# Altium schematic symbol library Power_Management.SchLib: 218 symbols (part 1 of 3)
Pins are listed as number, name and electrical type; pins without a type are passive.

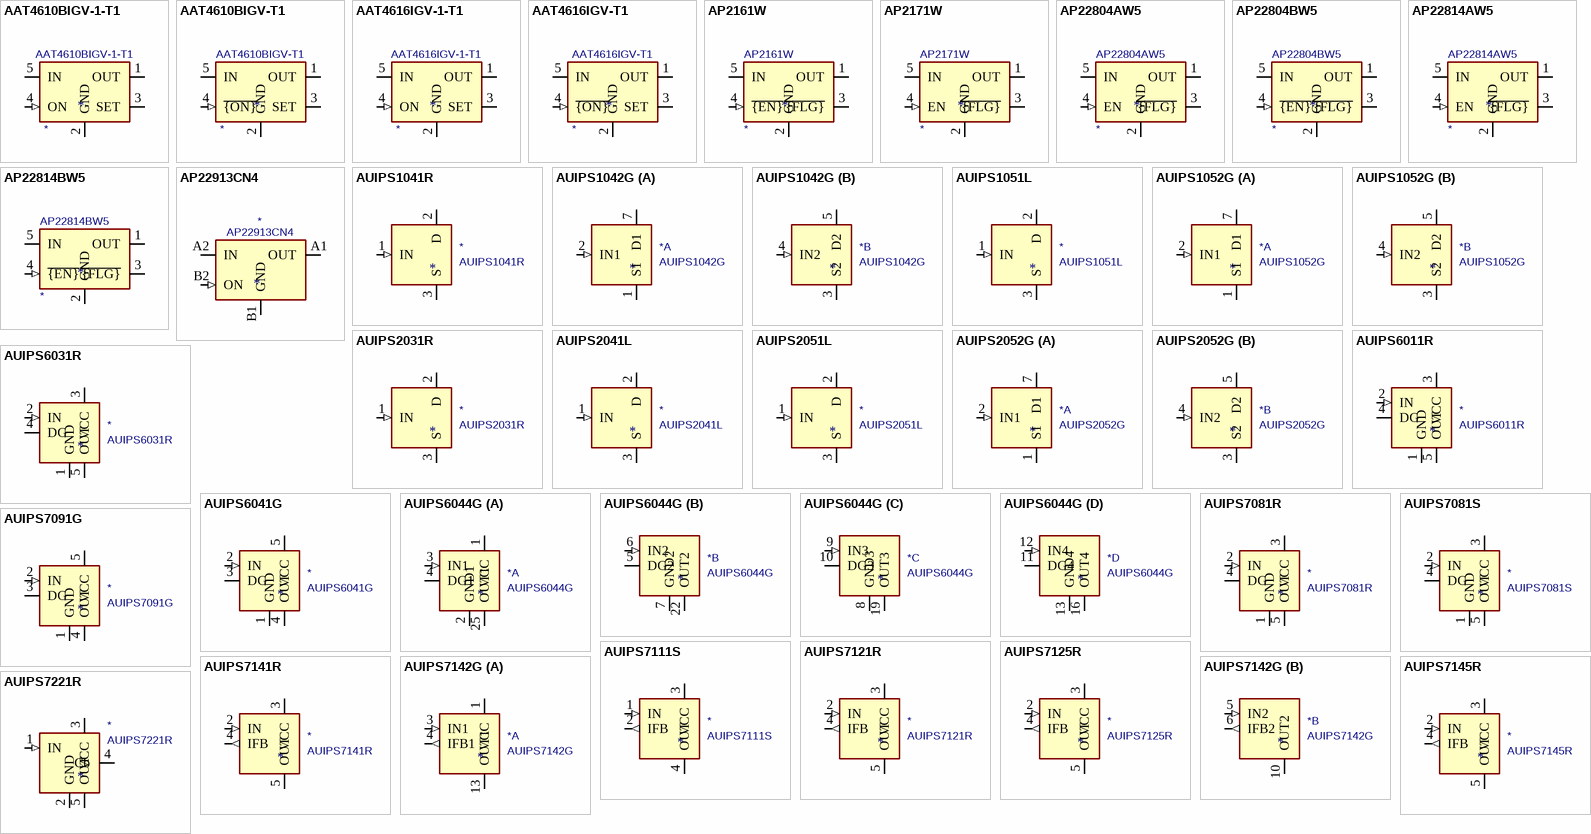
[diagram p0: symbols AAT4610BIGV-1-T1 to AUIPS7221R]

## AAT4610BIGV-1-T1
designator *  value AAT4610BIGV-1-T1
ki_keywords: Limit USB Active High; ki_description: Current Limited Load Switch, SOT-23-5; ki_fp_filters: SOT?23*; Footprint: Package_TO_SOT_SMD:SOT-23-5; Supplier: http://www.skyworksinc.com/uploads/documents/201937A.pdf
footprint SOT-23-5
pins: 1 OUT (power), 2 GND (power), 3 SET, 4 ON (in), 5 IN (power)

## AAT4610BIGV-T1
designator *  value AAT4610BIGV-T1
ki_keywords: Limit USB Active Low; ki_description: Current Limited Load Switch, SOT-23-5; ki_fp_filters: SOT?23*; Footprint: Package_TO_SOT_SMD:SOT-23-5; Supplier: http://www.skyworksinc.com/uploads/documents/201937A.pdf
footprint SOT-23-5
pins: 1 OUT (power), 2 GND (power), 3 SET, 4 ~{{ON}} (in), 5 IN (power)

## AAT4616IGV-1-T1
designator *  value AAT4616IGV-1-T1
ki_keywords: Limit USB Active High; ki_description: Adjustable Current Limited Load Switch, SOT-23-5; ki_fp_filters: SOT?23*; Footprint: Package_TO_SOT_SMD:SOT-23-5; Supplier: http://www.skyworksinc.com/uploads/documents/AAT4616_201940E.pdf
footprint SOT-23-5
pins: 1 OUT (power), 2 GND (power), 3 SET, 4 ON (in), 5 IN (power)

## AAT4616IGV-T1
designator *  value AAT4616IGV-T1
ki_keywords: Limit USB Active Low; ki_description: Adjustable Current Limited Load Switch, SOT-23-5; ki_fp_filters: SOT?23*; Footprint: Package_TO_SOT_SMD:SOT-23-5; Supplier: http://www.skyworksinc.com/uploads/documents/AAT4616_201940E.pdf
footprint SOT-23-5
pins: 1 OUT (power), 2 GND (power), 3 SET, 4 ~{{ON}} (in), 5 IN (power)

## AP2161W
designator *  value AP2161W
ki_keywords: Limit USB Active Low; ki_description: Current limited power switch, single channel, SOT-23-5; ki_fp_filters: SOT?23*; Footprint: Package_TO_SOT_SMD:SOT-23-5; Supplier: https://www.diodes.com/assets/Datasheets/AP2161.pdf
footprint SOT-23-5
pins: 1 OUT (power), 2 GND (power), 3 ~{{FLG}} (oc), 4 ~{{EN}} (in), 5 IN (power)

## AP2171W
designator *  value AP2171W
ki_keywords: Limit USB Active High; ki_description: Current limited power switch, single channel, SOT-23-5; ki_fp_filters: SOT?23*; Footprint: Package_TO_SOT_SMD:SOT-23-5; Supplier: https://www.diodes.com/assets/Datasheets/AP2161.pdf
footprint SOT-23-5
pins: 1 OUT (power), 2 GND (power), 3 ~{{FLG}} (oc), 4 EN (in), 5 IN (power)

## AP22804AW5
designator *  value AP22804AW5
ki_keywords: Limit USB Active High; ki_description: Current limited 2.5A power switch, single channel, SOT-23-5; ki_fp_filters: SOT?23*; Footprint: Package_TO_SOT_SMD:SOT-23-5; Supplier: https://www.diodes.com/assets/Datasheets/AP22804_14.pdf
footprint SOT-23-5
pins: 1 OUT (power), 2 GND (power), 3 ~{{FLG}} (oc), 4 EN (in), 5 IN (power)

## AP22804BW5
designator *  value AP22804BW5
ki_keywords: Limit USB Active Low; ki_description: Current limited 2.5A power switch, single channel, SOT-23-5; ki_fp_filters: SOT?23*; Footprint: Package_TO_SOT_SMD:SOT-23-5; Supplier: https://www.diodes.com/assets/Datasheets/AP22804_14.pdf
footprint SOT-23-5
pins: 1 OUT (power), 2 GND (power), 3 ~{{FLG}} (oc), 4 ~{{EN}} (in), 5 IN (power)

## AP22814AW5
designator *  value AP22814AW5
ki_keywords: Limit USB Active High; ki_description: Current limited 3A power switch, single channel, SOT-23-5; ki_fp_filters: SOT?23*; Footprint: Package_TO_SOT_SMD:SOT-23-5; Supplier: https://www.diodes.com/assets/Datasheets/AP22804_14.pdf
footprint SOT-23-5
pins: 1 OUT (power), 2 GND (power), 3 ~{{FLG}} (oc), 4 EN (in), 5 IN (power)

## AP22814BW5
designator *  value AP22814BW5
ki_keywords: Limit USB Active Low; ki_description: Current limited 3A power switch, single channel, SOT-23-5; ki_fp_filters: SOT?23*; Footprint: Package_TO_SOT_SMD:SOT-23-5; Supplier: https://www.diodes.com/assets/Datasheets/AP22804_14.pdf
footprint SOT-23-5
pins: 1 OUT (power), 2 GND (power), 3 ~{{FLG}} (oc), 4 ~{{EN}} (in), 5 IN (power)

## AP22913CN4
designator *  value AP22913CN4
ki_keywords: Lead control switch slew rate; ki_description: Slew rate controlled load switch, WLCSP-4; ki_fp_filters: WLCSP*X1*WLB0909*0.89x0.89*P0.5mm*; Footprint: Package_CSP:WLCSP-4-X1-WLB0909-4_0.89x0.89mm_P0.5mm; Supplier: https://www.diodes.com/assets/Datasheets/AP22913.pdf
footprint WLCSP-4-X1-WLB0909-4_0.89x0.89mm_P0.5mm
pins: A1 OUT (power), A2 IN (power), B1 GND (power), B2 ON (in)

## AUIPS1041R
designator *  value AUIPS1041R
ki_keywords: low side switch; ki_description: Intelligent Power Low Side Switch, 39V, 4.5A, DPAK-5L; ki_fp_filters: TO?252*; Footprint: Package_TO_SOT_SMD:TO-252-3_TabPin2; Supplier: https://www.infineon.com/dgdl/Infineon-AUIPS1041-DS-v01_00-EN.pdf?fileId=5546d4625a888733015aae14a0524c63
footprint TO-252-3_TabPin2
pins: 1 IN (in), 2 D, 3 S (power)

## AUIPS1042G
designator *  value AUIPS1042G
ki_keywords: dual low side switch; ki_description: Dual Channel Intelligent Power Low Side Switch, 39V, 4.5A, SOIC-8; ki_fp_filters: SOIC*3.9x4.9mm*P1.27mm*; Footprint: Package_SO:SOIC-8_3.9x4.9mm_P1.27mm; Supplier: https://www.infineon.com/dgdl/Infineon-AUIPS1041-DS-v01_00-EN.pdf?fileId=5546d4625a888733015aae14a0524c63
footprint SOIC-8_3.9x4.9mm_P1.27mm
part A pins: 1 S1 (power), 2 IN1 (in), 7 D1, 8 D1 hidden
part B pins: 3 S2 (power), 4 IN2 (in), 5 D2, 6 D2 hidden

## AUIPS1051L
designator *  value AUIPS1051L
ki_keywords: low side switch; ki_description: Intelligent Power Low Side Switch, 39V, 2.8A, SOT-223; ki_fp_filters: SOT?223*; Footprint: Package_TO_SOT_SMD:SOT-223-3_TabPin2; Supplier: https://www.infineon.com/dgdl/auips1051.pdf?fileId=5546d462533600a4015355a4710712fc
footprint SOT-223-3_TabPin2
pins: 1 IN (in), 2 D, 3 S (power)

## AUIPS1052G
designator *  value AUIPS1052G
ki_keywords: dual low side switch; ki_description: Dual Channel Intelligent Power Low Side Switch, 39V, 2.8A, SOIC-8; ki_fp_filters: SOIC*3.9x4.9mm*P1.27mm*; Footprint: Package_SO:SOIC-8_3.9x4.9mm_P1.27mm; Supplier: https://www.infineon.com/dgdl/auips1051.pdf?fileId=5546d462533600a4015355a4710712fc
footprint SOIC-8_3.9x4.9mm_P1.27mm
part A pins: 1 S1 (power), 2 IN1 (in), 7 D1, 8 D1 hidden
part B pins: 3 S2 (power), 4 IN2 (in), 5 D2, 6 D2 hidden

## AUIPS2031R
designator *  value AUIPS2031R
ki_keywords: low side switch; ki_description: Intelligent Power Low Side Switch, 68V, 10A, DPAK-5L; ki_fp_filters: TO?252*; Footprint: Package_TO_SOT_SMD:TO-252-3_TabPin2; Supplier: https://www.infineon.com/dgdl/Infineon-AUIPS2031R-DS-v01_00-EN.pdf?fileId=5546d4625a888733015aae1488334c5c
footprint TO-252-3_TabPin2
pins: 1 IN (in), 2 D, 3 S (power)

## AUIPS2041L
designator *  value AUIPS2041L
ki_keywords: low side switch; ki_description: Intelligent Power Low Side Switch, 68V, 5A, SOT-223; ki_fp_filters: SOT?223*; Footprint: Package_TO_SOT_SMD:SOT-223-3_TabPin2; Supplier: https://www.infineon.com/dgdl/Infineon-AUIPS2041-DS-v01_00-EN.pdf?fileId=5546d4625a888733015aae147a9d4c57
footprint SOT-223-3_TabPin2
pins: 1 IN (in), 2 D, 3 S (power)

## AUIPS2051L
designator *  value AUIPS2051L
ki_keywords: low side switch; ki_description: Intelligent Power Low Side Switch, 70V, 1.8A, SOT-223; ki_fp_filters: SOT?223*; Footprint: Package_TO_SOT_SMD:SOT-223-3_TabPin2; Supplier: https://www.infineon.com/dgdl/Infineon-AUIPS2052G-DS-v01_00-EN.pdf?fileId=5546d4625a888733015aae0b6fb04c51
footprint SOT-223-3_TabPin2
pins: 1 IN (in), 2 D, 3 S (power)

## AUIPS2052G
designator *  value AUIPS2052G
ki_keywords: dual low side switch; ki_description: Dual Channel Intelligent Power Low Side Switch, 70V, 1.8A, SOIC-8; ki_fp_filters: SOIC*3.9x4.9mm*P1.27mm*; Footprint: Package_SO:SOIC-8_3.9x4.9mm_P1.27mm; Supplier: https://www.infineon.com/dgdl/Infineon-AUIPS2052G-DS-v01_00-EN.pdf?fileId=5546d4625a888733015aae0b6fb04c51
footprint SOIC-8_3.9x4.9mm_P1.27mm
part A pins: 1 S1 (power), 2 IN1 (in), 7 D1, 8 D1 hidden
part B pins: 3 S2 (power), 4 IN2 (in), 5 D2, 6 D2 hidden

## AUIPS6011R
designator *  value AUIPS6011R
ki_keywords: high side switch; ki_description: Intelligent Power High Side Switch, 39V, 60A, DPAK-5L; ki_fp_filters: TO?252*; Footprint: Package_TO_SOT_SMD:TO-252-4; Supplier: https://www.infineon.com/dgdl/auips6011.pdf?fileId=5546d462533600a4015355a787bf1309
footprint TO-252-4
pins: 1 GND (power), 2 IN (in), 3 VCC (power), 4 DG (oc), 5 OUT (power)

## AUIPS6031R
designator *  value AUIPS6031R
ki_keywords: high side switch; ki_description: Intelligent Power High Side Switch, 39V, 16A, DPAK-5L; ki_fp_filters: TO?252*; Footprint: Package_TO_SOT_SMD:TO-252-4; Supplier: https://www.infineon.com/dgdl/auips6031.pdf?fileId=5546d462533600a4015355a797f51311
footprint TO-252-4
pins: 1 GND (power), 2 IN (in), 3 VCC (power), 4 DG (oc), 5 OUT (power)

## AUIPS6041G
designator *  value AUIPS6041G
ki_keywords: high side switch; ki_description: Intelligent Power High Side Switch, 39V, 7A, SOIC-8; ki_fp_filters: SOIC*3.9x4.9mm*P1.27mm*; Footprint: Package_SO:SOIC-8_3.9x4.9mm_P1.27mm; Supplier: https://www.infineon.com/dgdl/auips6041.pdf?fileId=5546d462533600a4015355a7a0251315
footprint SOIC-8_3.9x4.9mm_P1.27mm
pins: 1 GND (power), 2 IN (in), 3 DG (oc), 4 OUT (power), 5 VCC (power), 6 VCC hidden, 7 VCC hidden, 8 VCC hidden

## AUIPS6044G
designator *  value AUIPS6044G
ki_keywords: high side switch; ki_description: Intelligent Power High Side Switch, 39V, 7A, SOIC-28W; ki_fp_filters: SOIC*3.9x4.9mm*P1.27mm*; Footprint: Package_SO:SOIC-8_3.9x4.9mm_P1.27mm; Supplier: https://www.infineon.com/dgdl/auips6044g.pdf?fileId=5546d462533600a4015355a7a8e4131a
footprint SOIC-8_3.9x4.9mm_P1.27mm
part A pins: 1 VCC (power), 2 GND1 (power), 3 IN1 (in), 4 DG1 (oc), 14 VCC hidden, 15 VCC hidden, 25 OUT1 (power), 26 OUT1 hidden, 27 OUT1 hidden, 28 VCC hidden
part B pins: 5 DG2 (oc), 6 IN2 (in), 7 GND2 (power), 22 OUT2 (power), 23 OUT2 hidden, 24 OUT2 hidden
part C pins: 8 GND3 (power), 9 IN3 (in), 10 DG3 (oc), 19 OUT3 (power), 20 OUT3 hidden, 21 OUT3 hidden
part D pins: 11 DG4 (oc), 12 IN4 (in), 13 GND4 (power), 16 OUT4 (power), 17 OUT4 hidden, 18 OUT4 hidden

## AUIPS7081R
designator *  value AUIPS7081R
ki_keywords: high side switch; ki_description: Intelligent Power High Side Switch, 70V, 5A, DPAK-5L; ki_fp_filters: TO?252*; Footprint: Package_TO_SOT_SMD:TO-252-4; Supplier: https://www.infineon.com/dgdl/auips7081.pdf?fileId=5546d462533600a4015355a7b8d5131e
footprint TO-252-4
pins: 1 GND (power), 2 IN (in), 3 VCC (power), 4 DG (oc), 5 OUT (power)

## AUIPS7081S
designator *  value AUIPS7081S
ki_keywords: high side switch; ki_description: Intelligent Power High Side Switch, 70V, 5A, D2PAK-5L; ki_fp_filters: TO?263*; Footprint: Package_TO_SOT_SMD:TO-263-4; Supplier: https://www.infineon.com/dgdl/auips7081.pdf?fileId=5546d462533600a4015355a7b8d5131e
footprint TO-263-4
pins: 1 GND (power), 2 IN (in), 3 VCC (power), 4 DG (oc), 5 OUT (power)

## AUIPS7091G
designator *  value AUIPS7091G
ki_keywords: high side switch; ki_description: Intelligent Power High Side Switch, 70V, 5A, SOIC-8; ki_fp_filters: SOIC*3.9x4.9mm*P1.27mm*; Footprint: Package_SO:SOIC-8_3.9x4.9mm_P1.27mm; Supplier: https://www.infineon.com/dgdl/auips7091.pdf?fileId=5546d462533600a4015355a7c0d21322
footprint SOIC-8_3.9x4.9mm_P1.27mm
pins: 1 GND (power), 2 IN (in), 3 DG (oc), 4 OUT (power), 5 VCC (power), 6 VCC hidden, 7 VCC hidden, 8 VCC hidden

## AUIPS7111S
designator *  value AUIPS7111S
ki_keywords: high side switch; ki_description: Current Sense High Side Switch, 65V, 30A, D2PAK-5L; ki_fp_filters: TO?263*; Footprint: Package_TO_SOT_SMD:TO-263-4; Supplier: https://www.infineon.com/dgdl/auips7111s.pdf?fileId=5546d462533600a4015355a7c94e1326
footprint TO-263-4
pins: 1 IN (in), 2 IFB (out), 3 VCC (power), 4 OUT (power), 5 OUT hidden

## AUIPS7121R
designator *  value AUIPS7121R
ki_keywords: high side switch; ki_description: Current Sense High Side Switch, 65V, 50A, DPAK-5L; ki_fp_filters: TO?252*; Footprint: Package_TO_SOT_SMD:TO-252-4; Supplier: http://www.infineon.com/dgdl/auips7121.pdf?fileId=5546d462533600a4015355a7d1721328
footprint TO-252-4
pins: 1 NC (in) hidden, 2 IN (in), 3 VCC (power), 4 IFB (out), 5 OUT (power)

## AUIPS7125R
designator *  value AUIPS7125R
ki_keywords: high side switch; ki_description: Current Sense High Side Switch, 65V, 50A, DPAK-5L; ki_fp_filters: TO?252*; Footprint: Package_TO_SOT_SMD:TO-252-4; Supplier: https://www.infineon.com/dgdl/auips7125.pdf?fileId=5546d462533600a4015355a7d96a132a
footprint TO-252-4
pins: 1 NC (in) hidden, 2 IN (in), 3 VCC (power), 4 IFB (out), 5 OUT (power)

## AUIPS7141R
designator *  value AUIPS7141R
ki_keywords: high side switch; ki_description: Current Sense High Side Switch, 65V, 20A, DPAK-5L; ki_fp_filters: TO?252*; Footprint: Package_TO_SOT_SMD:TO-252-4; Supplier: https://www.infineon.com/dgdl/auips7141.pdf?fileId=5546d462533600a4015355a7e126132c
footprint TO-252-4
pins: 1 NC (in) hidden, 2 IN (in), 3 VCC (power), 4 IFB (out), 5 OUT (power)

## AUIPS7142G
designator *  value AUIPS7142G
ki_keywords: dual high side switch; ki_description: Dual Channels Current Sense High Side Switch, 65V, 20A, SOIC-16W; ki_fp_filters: SOIC*W*7.5x10.3mm*P1.27mm*; Footprint: Package_SO:SOIC-16W_7.5x10.3mm_P1.27mm; Supplier: https://www.infineon.com/dgdl/auips7142g.pdf?fileId=5546d462533600a4015355a7ef451330
footprint SOIC-16W_7.5x10.3mm_P1.27mm
part A pins: 1 VCC (power), 2 VCC hidden, 3 IN1 (in), 4 IFB1 (out), 7 VCC hidden, 8 VCC hidden, 9 VCC hidden, 13 OUT1 (power), 14 OUT1 hidden, 15 OUT1 hidden, 16 VCC hidden
part B pins: 5 IN2 (in), 6 IFB2 (out), 10 OUT2 (power), 11 OUT2 hidden, 12 OUT2 hidden

## AUIPS7145R
designator *  value AUIPS7145R
ki_keywords: high side switch; ki_description: Current Sense High Side Switch, 65V, 20A, DPAK-5L; ki_fp_filters: TO?252*; Footprint: Package_TO_SOT_SMD:TO-252-4; Supplier: https://www.infineon.com/dgdl/auips7145r.pdf?fileId=5546d462533600a4015355a7ff1a1334
footprint TO-252-4
pins: 1 NC (in) hidden, 2 IN (in), 3 VCC (power), 4 IFB (out), 5 OUT (power)

## AUIPS7221R
designator *  value AUIPS7221R
ki_keywords: high side switch; ki_description: PWM Intelligent Power High Side Switch, 75V, 25A, DPAK-5L; ki_fp_filters: TO?252*; Footprint: Package_TO_SOT_SMD:TO-252-4; Supplier: https://www.infineon.com/dgdl/auips7221r.pdf?fileId=5546d462533600a4015355a80e761338
footprint TO-252-4
pins: 1 IN (in), 2 GND (power), 3 VCC (power), 4 Cb, 5 OUT (power)

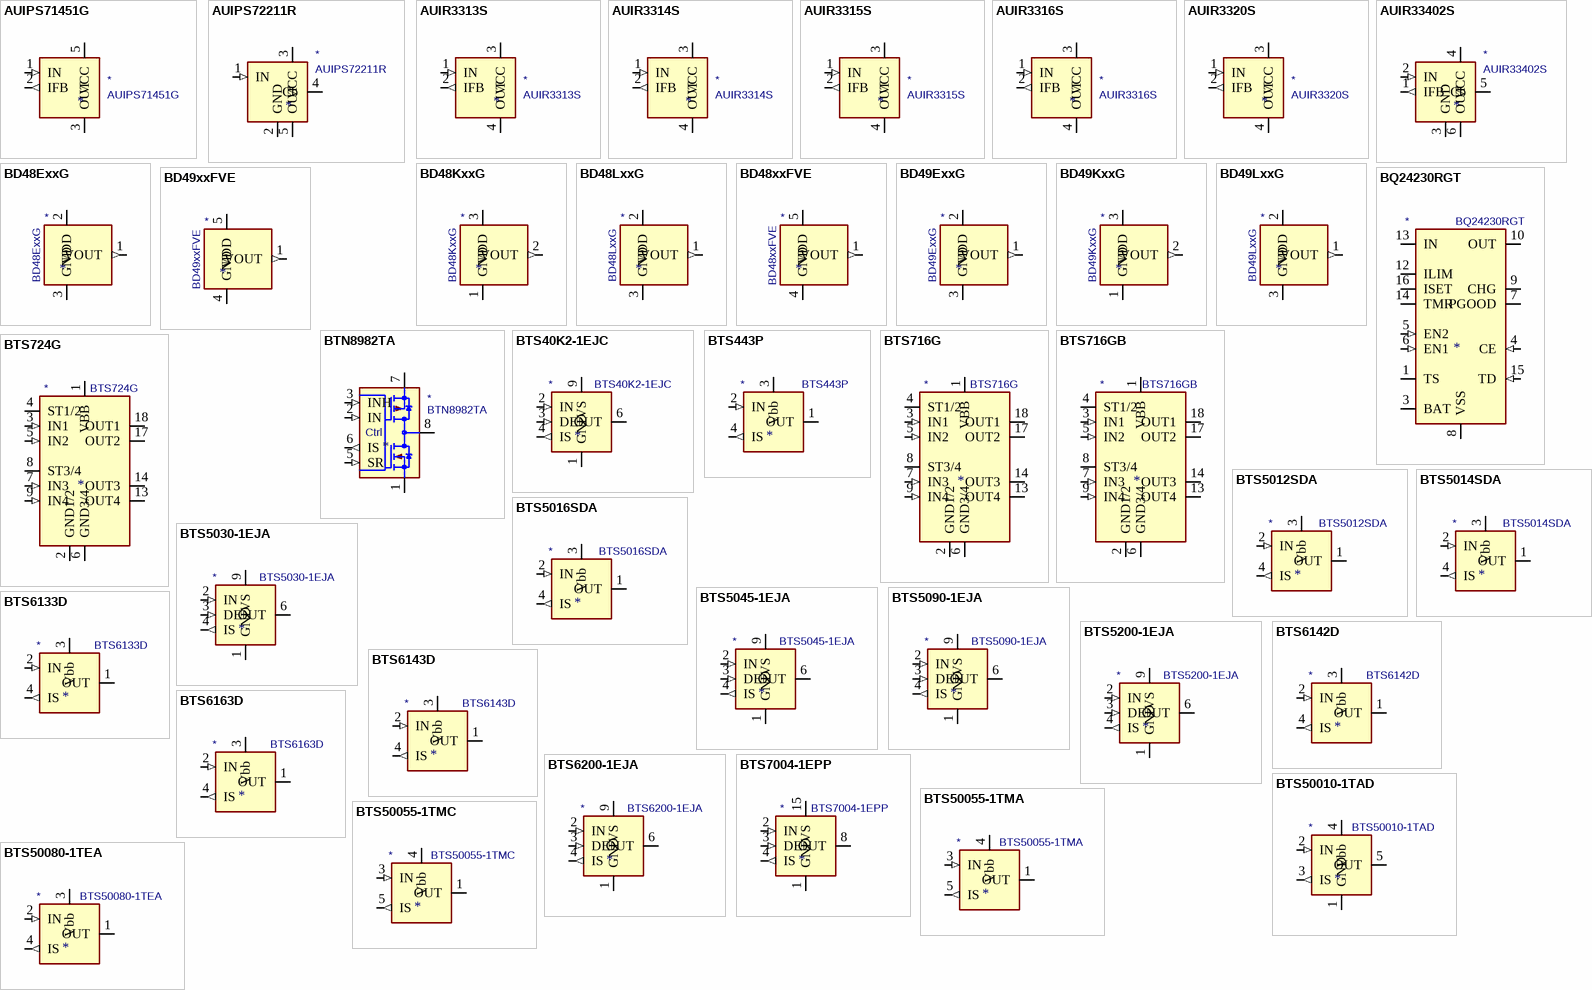
[diagram p1: symbols AUIPS71451G to BTS50080-1TEA]

## AUIPS71451G
designator *  value AUIPS71451G
ki_keywords: high side switch; ki_description: Current Sense High Side Switch, 65V, 4A, SOIC-8; ki_fp_filters: SOIC*3.9x4.9mm*P1.27mm*; Footprint: Package_SO:SOIC-8_3.9x4.9mm_P1.27mm; Supplier: https://www.infineon.com/dgdl/auips71451g.pdf?fileId=5546d462533600a4015355a7f7461332
footprint SOIC-8_3.9x4.9mm_P1.27mm
pins: 1 IN (in), 2 IFB (out), 3 OUT (power), 4 OUT hidden, 5 VCC (power), 6 VCC hidden, 7 VCC hidden, 8 VCC hidden

## AUIPS72211R
designator *  value AUIPS72211R
ki_keywords: high side switch; ki_description: Low EMI PWM Intelligent Power High Side Switch, 75V, 20A, DPAK-5L; ki_fp_filters: TO?252*; Footprint: Package_TO_SOT_SMD:TO-252-4; Supplier: https://www.infineon.com/dgdl/Infineon-AUIPS72211R-DS-v01_10-EN.pdf?fileId=5546d4625a888733015aad6673cb4beb
footprint TO-252-4
pins: 1 IN (in), 2 GND (power), 3 VCC (power), 4 Cb, 5 OUT (power)

## AUIR3313S
designator *  value AUIR3313S
ki_keywords: high side switch; ki_description: Programmable Current Sense High Side Switch, 32V, 90A, D2PAK-5L; ki_fp_filters: TO?263*; Footprint: Package_TO_SOT_SMD:TO-263-4; Supplier: https://www.infineon.com/dgdl/auir3313.pdf?fileId=5546d462533600a4015355a83e2d1347
footprint TO-263-4
pins: 1 IN (in), 2 IFB (out), 3 VCC (power), 4 OUT (power), 5 OUT hidden

## AUIR3314S
designator *  value AUIR3314S
ki_keywords: high side switch; ki_description: Programmable Current Sense High Side Switch, 32V, 58A, D2PAK-5L; ki_fp_filters: TO?263*; Footprint: Package_TO_SOT_SMD:TO-263-4; Supplier: https://www.infineon.com/dgdl/auir3314.pdf?fileId=5546d462533600a4015355a846b8134a
footprint TO-263-4
pins: 1 IN (in), 2 IFB (out), 3 VCC (power), 4 OUT (power), 5 OUT hidden

## AUIR3315S
designator *  value AUIR3315S
ki_keywords: high side switch; ki_description: Programmable Current Sense High Side Switch, 32V, 30A, D2PAK-5L; ki_fp_filters: TO?263*; Footprint: Package_TO_SOT_SMD:TO-263-4; Supplier: https://www.infineon.com/dgdl/auir3315.pdf?fileId=5546d462533600a4015355a84eda134d
footprint TO-263-4
pins: 1 IN (in), 2 IFB (out), 3 VCC (power), 4 OUT (power), 5 OUT hidden

## AUIR3316S
designator *  value AUIR3316S
ki_keywords: high side switch; ki_description: Low EMI Current Sense High Side Switch, 26V, 90A, D2PAK-5L; ki_fp_filters: TO?263*; Footprint: Package_TO_SOT_SMD:TO-263-4; Supplier: https://www.infineon.com/dgdl/auir3316.pdf?fileId=5546d462533600a4015355a856f41350
footprint TO-263-4
pins: 1 IN (in), 2 IFB (out), 3 VCC (power), 4 OUT (power), 5 OUT hidden

## AUIR3320S
designator *  value AUIR3320S
ki_keywords: high side switch; ki_description: Low EMI Current Sense High Side Switch, 26V, 55A, D2PAK-5L; ki_fp_filters: TO?263*; Footprint: Package_TO_SOT_SMD:TO-263-4; Supplier: https://www.infineon.com/dgdl/auir3320s.pdf?fileId=5546d462533600a4015355a867d01356
footprint TO-263-4
pins: 1 IN (in), 2 IFB (out), 3 VCC (power), 4 OUT (power), 5 OUT hidden

## AUIR33402S
designator *  value AUIR33402S
ki_keywords: high side switch; ki_description: Protected High Side Switch, 18V, 33A, D2PAK-7L; ki_fp_filters: TO?263*TabPin4*; Footprint: Package_TO_SOT_SMD:TO-263-7_TabPin4; Supplier: https://www.infineon.com/dgdl/auir33402s.pdf?fileId=5546d462533600a4015355a88074135c
footprint TO-263-7_TabPin4
pins: 1 IFB (out), 2 IN (in), 3 GND (power), 4 VCC (power), 5 Cb, 6 OUT (power), 7 OUT hidden

## BD48ExxG
designator *  value BD48ExxG
ki_keywords: voltage detector open drain SSOP5; ki_description: Standard CMOS Voltage Detector IC, Open Drain Output, SSOP5; ki_fp_filters: *SOT-23*5*; Footprint: Package_TO_SOT_SMD:SOT-23-5; Supplier: https://www.rohm.de/datasheet/BD4830FVE/bd48xxg-e
footprint SOT-23-5
pins: 1 VOUT (out), 2 VDD (power), 3 GND (power)

## BD48KxxG
designator *  value BD48KxxG
ki_keywords: voltage detector open drain SSOP3; ki_description: Standard CMOS Voltage Detector IC, Open Drain Output, SSOP3(1pin GND); ki_fp_filters: *SOT-23*; Footprint: Package_TO_SOT_SMD:SOT-23; Supplier: https://www.rohm.de/datasheet/BD4830FVE/bd48xxg-e
footprint SOT-23
pins: 1 GND (power), 2 VOUT (out), 3 VDD (power)

## BD48LxxG
designator *  value BD48LxxG
ki_keywords: voltage detector open drain SSOP3; ki_description: Standard CMOS Voltage Detector IC, Open Drain Output, SSOP3(3pin GND); ki_fp_filters: *SOT-23*; Footprint: Package_TO_SOT_SMD:SOT-23; Supplier: https://www.rohm.de/datasheet/BD4830FVE/bd48xxg-e
footprint SOT-23
pins: 1 VOUT (out), 2 VDD (power), 3 GND (power)

## BD48xxFVE
designator *  value BD48xxFVE
ki_keywords: voltage detector open drain VSOF5; ki_description: Standard CMOS Voltage Detector IC, Open Drain Output, VSOF5; ki_fp_filters: *VSOF*5*; Footprint: Package_TO_SOT_SMD:VSOF5; Supplier: https://www.rohm.de/datasheet/BD4830FVE/bd48xxg-e
footprint VSOF5
pins: 1 VOUT (out), 2 GND hidden, 4 GND (power), 5 VDD (power)

## BD49ExxG
designator *  value BD49ExxG
ki_keywords: voltage detector cmos SSOP5; ki_description: Standard CMOS Voltage Detector IC, CMOS Output, SSOP5; ki_fp_filters: *SOT-23*5*; Footprint: Package_TO_SOT_SMD:SOT-23-5; Supplier: https://www.rohm.de/datasheet/BD4830FVE/bd48xxg-e
footprint SOT-23-5
pins: 1 VOUT (out), 2 VDD (power), 3 GND (power)

## BD49KxxG
designator *  value BD49KxxG
ki_keywords: voltage detector cmos SSOP3; ki_description: Standard CMOS Voltage Detector IC, CMOS Output, SSOP3(1pin GND); ki_fp_filters: *SOT-23*; Footprint: Package_TO_SOT_SMD:SOT-23; Supplier: https://www.rohm.de/datasheet/BD4830FVE/bd48xxg-e
footprint SOT-23
pins: 1 GND (power), 2 VOUT (out), 3 VDD (power)

## BD49LxxG
designator *  value BD49LxxG
ki_keywords: voltage detector cmos SSOP3; ki_description: Standard CMOS Voltage Detector IC, CMOS Output, SSOP3(3pin GND); ki_fp_filters: *SOT-23*; Footprint: Package_TO_SOT_SMD:SOT-23; Supplier: https://www.rohm.de/datasheet/BD4830FVE/bd48xxg-e
footprint SOT-23
pins: 1 VOUT (out), 2 VDD (power), 3 GND (power)

## BD49xxFVE
designator *  value BD49xxFVE
ki_keywords: voltage detector cmos VSOF5; ki_description: Standard CMOS Voltage Detector IC, CMOS Output, VSOF5; ki_fp_filters: *VSOF*5*; Footprint: Package_TO_SOT_SMD:VSOF5; Supplier: https://www.rohm.de/datasheet/BD4830FVE/bd48xxg-e
footprint VSOF5
pins: 1 VOUT (out), 2 GND hidden, 4 GND (power), 5 VDD (power)

## BQ24230RGT
designator *  value BQ24230RGT
ki_keywords: Lithium-ion battery charger; ki_description: USB-Friendly Lithium-Ion Battery Charger And Power-Path Management IC, VQFN-16; ki_fp_filters: VQFN*1EP*3x3mm*P0.5mm*; Footprint: Package_DFN_QFN:VQFN-16-1EP_3x3mm_P0.5mm_EP1.68x1.68mm_ThermalVias; Supplier: http://www.ti.com/cn/lit/ds/symlink/bq24230.pdf
footprint VQFN-16-1EP_3x3mm_P0.5mm_EP1.68x1.68mm_ThermalVias
pins: 1 TS, 2 BAT (io) hidden, 3 BAT (io), 4 CE (in), 5 EN2 (in), 6 EN1 (in), 7 PGOOD (oc), 8 VSS (power), 9 CHG (oc), 10 OUT (power), 11 OUT hidden, 12 ILIM, 13 IN (power), 14 TMR, 15 TD (in), 16 ISET, 17 VSS hidden

## BTN8982TA
designator *  value BTN8982TA
ki_keywords: half bridge for motor drive applications; ki_description: High Current PN Half Bridge, TO-263-7; ki_fp_filters: TO*263*TabPin8*; Footprint: Package_TO_SOT_SMD:TO-263-7_TabPin8; Supplier: https://www.infineon.com/dgdl/Infineon-BTN8982TA-DS-v01_00-EN.pdf?fileId=db3a30433fa9412f013fbe32289b7c17
footprint TO-263-7_TabPin8
pins: 1 (power), 2 IN (in), 3 INH (in), 4 hidden, 5 SR (in), 6 IS (out), 7 (power), 8
text: Ctrl

## BTS40K2-1EJC
designator *  value BTS40K2-1EJC
ki_keywords: infineon power switch; ki_description: Smart High-Side Power Switch, PROFET, Single, 200mOhm, 1.5A, 36V, DSO-8; ki_fp_filters: Infineon*PG*DSO*43*; Footprint: Package_SO:Infineon_PG-DSO-8-43; Supplier: http://www.infineon.com/dgdl/Infineon-BTS40K2-1EJC-DS-v01_00-EN.pdf?fileId=5546d462518ffd85015254ee4e601f99
footprint Infineon_PG-DSO-8-43
pins: 1 GND (power), 2 IN (in), 3 DEN (in), 4 IS (out), 5 NC (in) hidden, 6 OUT (power), 7 OUT hidden, 8 OUT hidden, 9 VS (power)

## BTS443P
designator *  value BTS443P
ki_keywords: infineon power switch; ki_description: Smart High-Side Power Switch, PROFET, Single, 16mOhm, 7.6A, 36V, TO252-5; ki_fp_filters: TO*252*; Footprint: Package_TO_SOT_SMD:TO-252-4; Supplier: http://www.infineon.com/dgdl/Infineon-BTS443P-DS-v01_00-EN.pdf?fileId=5546d4625a888733015aa9afbc5035d5
footprint TO-252-4
pins: 1 OUT (power), 2 IN (in), 3 Vbb (power), 4 IS (out), 5 OUT hidden

## BTS716G
designator *  value BTS716G
ki_keywords: High_Side_Switch Power; ki_description: Smart High-Side Power Switch, PROFET, 4 Channel, 140mOhm, 2.6A, 40V, DSO-20; ki_fp_filters: Infineon*PG*DSO*; Footprint: Package_SO:Infineon_PG-DSO-20-32; Supplier: https://www.infineon.com/dgdl/Infineon-BTS716G-DS-v01_00-EN.pdf?fileId=5546d4625a888733015aa3be86601004
footprint Infineon_PG-DSO-20-32
pins: 1 VBB (power), 2 GND1/2 (power), 3 IN1 (in), 4 ST1/2 (oc), 5 IN2 (in), 6 GND3/4 (power), 7 IN3 (in), 8 ST3/4 (oc), 9 IN4 (in), 10 VBB hidden, 11 VBB hidden, 12 VBB hidden, 13 OUT4 (oe), 14 OUT3 (oe), 15 VBB hidden, 16 VBB hidden, 17 OUT2 (oe), 18 OUT1 (oe), 19 VBB hidden, 20 VBB hidden

## BTS716GB
designator *  value BTS716GB
ki_keywords: High_Side_Switch Power; ki_description: Smart High-Side Power Switch, PROFET, 4 Channel, 140mOhm, 2.6A, 40V, DSO-20; ki_fp_filters: Infineon*PG*DSO*; Footprint: Package_SO:Infineon_PG-DSO-20-32; Supplier: https://www.infineon.com/dgdl/Infineon-BTS716GB-DS-v01_00-EN.pdf?fileId=5546d4625a888733015aa3be94e21008
footprint Infineon_PG-DSO-20-32
pins: 1 VBB (power), 2 GND1/2 (power), 3 IN1 (in), 4 ST1/2 (oc), 5 IN2 (in), 6 GND3/4 (power), 7 IN3 (in), 8 ST3/4 (oc), 9 IN4 (in), 10 VBB hidden, 11 VBB hidden, 12 VBB hidden, 13 OUT4 (oe), 14 OUT3 (oe), 15 VBB hidden, 16 VBB hidden, 17 OUT2 (oe), 18 OUT1 (oe), 19 VBB hidden, 20 VBB hidden

## BTS724G
designator *  value BTS724G
ki_keywords: High_Side_Switch Power; ki_description: Smart High-Side Power Switch, PROFET, 4 Channel, 90mOhm, 3.3A, 40V, DSO-20; ki_fp_filters: Infineon*PG*DSO*; Footprint: Package_SO:Infineon_PG-DSO-20-32; Supplier: https://www.infineon.com/dgdl/Infineon-BTS724G-DS-v01_00-EN.pdf?fileId=5546d4625a888733015aa3a2f1030ff1
footprint Infineon_PG-DSO-20-32
pins: 1 VBB (power), 2 GND1/2 (power), 3 IN1 (in), 4 ST1/2 (oc), 5 IN2 (in), 6 GND3/4 (power), 7 IN3 (in), 8 ST3/4 (oc), 9 IN4 (in), 10 VBB hidden, 11 VBB hidden, 12 VBB hidden, 13 OUT4 (oe), 14 OUT3 (oe), 15 VBB hidden, 16 VBB hidden, 17 OUT2 (oe), 18 OUT1 (oe), 19 VBB hidden, 20 VBB hidden

## BTS5012SDA
designator *  value BTS5012SDA
ki_keywords: infineon power switch; ki_description: Smart High-Side Power Switch, PROFET, Single, 24mOhm, 6.5A, 20V, TO252-5; ki_fp_filters: TO*252*; Footprint: Package_TO_SOT_SMD:TO-252-4; Supplier: http://www.infineon.com/dgdl/Infineon-BTS5012SDA-DS-v01_01-en.pdf?fileId=db3a30431d8a6b3c011db95c6eba237d
footprint TO-252-4
pins: 1 OUT (power), 2 IN (in), 3 Vbb (power), 4 IS (out), 5 OUT hidden

## BTS5014SDA
designator *  value BTS5014SDA
ki_keywords: infineon power switch; ki_description: Smart High-Side Power Switch, PROFET, Single, 28mOhm, 6A, 20V, TO252-5; ki_fp_filters: TO*252*; Footprint: Package_TO_SOT_SMD:TO-252-4; Supplier: http://www.infineon.com/dgdl/Infineon-BTS5014SDA-DS-v01_01-EN.pdf?fileId=5546d4625a888733015aa42c708e1142
footprint TO-252-4
pins: 1 OUT (power), 2 IN (in), 3 Vbb (power), 4 IS (out), 5 OUT hidden

## BTS5016SDA
designator *  value BTS5016SDA
ki_keywords: infineon power switch; ki_description: Smart High-Side Power Switch, PROFET, Single, 32mOhm, 5.5A, 20V, TO252-5; ki_fp_filters: TO*252*; Footprint: Package_TO_SOT_SMD:TO-252-4; Supplier: http://www.infineon.com/dgdl/Infineon-BTS5016SDA-DS-v01_01-EN.pdf?fileId=5546d4625a888733015aa41a6c38112d
footprint TO-252-4
pins: 1 OUT (power), 2 IN (in), 3 Vbb (power), 4 IS (out), 5 OUT hidden

## BTS5030-1EJA
designator *  value BTS5030-1EJA
ki_keywords: infineon power switch; ki_description: Smart High-Side Power Switch, PROFET, Single, 30mOhm, 5A, 28V, DSO-8; ki_fp_filters: Infineon*PG*DSO*43*; Footprint: Package_SO:Infineon_PG-DSO-8-43; Supplier: http://www.infineon.com/dgdl/Infineon-BTS5030-1EJA-DS-v02_20-EN.pdf?fileId=5546d46259d9a4bf015a84f3e686758a
footprint Infineon_PG-DSO-8-43
pins: 1 GND (power), 2 IN (in), 3 DEN (in), 4 IS (out), 5 NC (in) hidden, 6 OUT (power), 7 OUT hidden, 8 OUT hidden, 9 VS (power)

## BTS5045-1EJA
designator *  value BTS5045-1EJA
ki_keywords: infineon power switch; ki_description: Smart High-Side Power Switch, PROFET, Single, 45mOhm, 4A, 28V, DSO-8; ki_fp_filters: Infineon*PG*DSO*43*; Footprint: Package_SO:Infineon_PG-DSO-8-43; Supplier: http://www.infineon.com/dgdl/Infineon-BTS5045-1EJA-DS-v02_02-EN.pdf?fileId=5546d4625a888733015aa411125b1069
footprint Infineon_PG-DSO-8-43
pins: 1 GND (power), 2 IN (in), 3 DEN (in), 4 IS (out), 5 NC (in) hidden, 6 OUT (power), 7 OUT hidden, 8 OUT hidden, 9 VS (power)

## BTS5090-1EJA
designator *  value BTS5090-1EJA
ki_keywords: infineon power switch; ki_description: Smart High-Side Power Switch, PROFET, Single, 90mOhm, 3A, 28V, DSO-8; ki_fp_filters: Infineon*PG*DSO*43*; Footprint: Package_SO:Infineon_PG-DSO-8-43; Supplier: http://www.infineon.com/dgdl/Infineon-BTS5090-1EJA-DS-v02_02-EN.pdf?fileId=5546d4625a888733015aa410fc371059
footprint Infineon_PG-DSO-8-43
pins: 1 GND (power), 2 IN (in), 3 DEN (in), 4 IS (out), 5 NC (in) hidden, 6 OUT (power), 7 OUT hidden, 8 OUT hidden, 9 VS (power)

## BTS5200-1EJA
designator *  value BTS5200-1EJA
ki_keywords: infineon power switch; ki_description: Smart High-Side Power Switch, PROFET, Single, 200mOhm, 1.5A, 28V, DSO-8; ki_fp_filters: Infineon*PG*DSO*43*; Footprint: Package_SO:Infineon_PG-DSO-8-43; Supplier: http://www.infineon.com/dgdl/Infineon-BTS5200-1EJA-DS-v01_00-EN.pdf?fileId=5546d46250cc1fdf0151636cd945402e
footprint Infineon_PG-DSO-8-43
pins: 1 GND (power), 2 IN (in), 3 DEN (in), 4 IS (out), 5 NC (in) hidden, 6 OUT (power), 7 OUT hidden, 8 OUT hidden, 9 VS (power)

## BTS6133D
designator *  value BTS6133D
ki_keywords: infineon power switch; ki_description: Smart High-Side Power Switch, PROFET, Single, 10mOhm, 8A, 38V, TO-252-5; ki_fp_filters: TO*252*; Footprint: Package_TO_SOT_SMD:TO-252-4; Supplier: http://www.infineon.com/dgdl/Infineon-BTS6133D-DS-v01_00-EN.pdf?fileId=5546d4625a888733015aa3e3286f102a
footprint TO-252-4
pins: 1 OUT (power), 2 IN (in), 3 Vbb (power), 4 IS (out), 5 OUT hidden

## BTS6142D
designator *  value BTS6142D
ki_keywords: infineon power switch; ki_description: Smart High-Side Power Switch, PROFET, Single, 12mOhm, 7A, 24V, TO252-5; ki_fp_filters: TO*252*; Footprint: Package_TO_SOT_SMD:TO-252-4; Supplier: http://www.infineon.com/dgdl/Infineon-BTS6142D-DS-v01_01-EN.pdf?fileId=5546d4625a888733015aa3da1e0e1026
footprint TO-252-4
pins: 1 OUT (power), 2 IN (in), 3 Vbb (power), 4 IS (out), 5 OUT hidden

## BTS6143D
designator *  value BTS6143D
ki_keywords: infineon power switch; ki_description: Smart High-Side Power Switch, PROFET, Single, 10mOhm, 8A, 38V, TO252-5; ki_fp_filters: TO*252*; Footprint: Package_TO_SOT_SMD:TO-252-4; Supplier: http://www.infineon.com/dgdl/Infineon-BTS6143D-DS-v01_00-EN.pdf?fileId=5546d4625a888733015aa3da10821022
footprint TO-252-4
pins: 1 OUT (power), 2 IN (in), 3 Vbb (power), 4 IS (out), 5 OUT hidden

## BTS6163D
designator *  value BTS6163D
ki_keywords: infineon power switch; ki_description: Smart High-Side Power Switch, PROFET, Single, 20mOhm, 5.5A, 62V, TO252-5; ki_fp_filters: TO*252*; Footprint: Package_TO_SOT_SMD:TO-252-4; Supplier: http://www.infineon.com/dgdl/Infineon-BTS6163D-DS-v01_00-EN.pdf?fileId=5546d4625a888733015aa3da01a1101e
footprint TO-252-4
pins: 1 OUT (power), 2 IN (in), 3 Vbb (power), 4 IS (out), 5 OUT hidden

## BTS6200-1EJA
designator *  value BTS6200-1EJA
ki_keywords: infineon power switch; ki_description: Smart High-Side Power Switch, PROFET, Single, 200mOhm, 1.5A, 36V, DSO-8; ki_fp_filters: Infineon*PG*DSO*43*; Footprint: Package_SO:Infineon_PG-DSO-8-43; Supplier: http://www.infineon.com/dgdl/Infineon-BTT6200-1EJA-DS-v01_00-EN.pdf?fileId=5546d4625a888733015aa3756ec20fcc
footprint Infineon_PG-DSO-8-43
pins: 1 GND (power), 2 IN (in), 3 DEN (in), 4 IS (out), 5 NC (in) hidden, 6 OUT (power), 7 OUT hidden, 8 OUT hidden, 9 VS (power)

## BTS7004-1EPP
designator *  value BTS7004-1EPP
ki_keywords: BTS7004; ki_description: Smart High-Side Power Switch, PROFET, One Channel, 12V, 15A, Rds(on) 4.4mΩ, PG-TSDSO-14-22; ki_fp_filters: Infineon*TSDSO*22*; Footprint: Package_SO:Infineon_PG-TSDSO-14-22; Supplier: https://www.infineon.com/dgdl/Infineon-BTS7004-1EPP-DS-v01_00-EN.pdf?fileId=5546d4626102d35a016147550a725555
footprint Infineon_PG-TSDSO-14-22
pins: 1 GND (power), 2 IN (in), 3 DEN (in), 4 IS (out), 5 NC (in) hidden, 6 NC (in) hidden, 7 NC (in) hidden, 8 OUT (power), 9 OUT hidden, 10 OUT hidden, 11 NC (in) hidden, 12 OUT hidden, 13 OUT hidden, 14 OUT hidden, 15 VS (power)

## BTS50010-1TAD
designator *  value BTS50010-1TAD
ki_keywords: BTS50010 PROFET; ki_description: Smart High-Side Power Switch, PROFET, Single, 1mOhm, 40A, 18V, TO-263-7; ki_fp_filters: TO*263*TabPin4*; Footprint: Package_TO_SOT_SMD:TO-263-7_TabPin4; Supplier: https://www.infineon.com/dgdl/Infineon-BTS50010-1TAD-DS-v01_00-EN.pdf?fileId=5546d462576f34750157c38810ca55cd
footprint TO-263-7_TabPin4
pins: 1 GND (power), 2 IN (in), 3 IS (out), 4 Vbb (power), 5 OUT, 6 OUT hidden, 7 OUT hidden

## BTS50055-1TMA
designator *  value BTS50055-1TMA
ki_keywords: BTS50055 PROFET; ki_description: Smart High-Side Power Switch, PROFET, Single, 6mOhm, 70A, 34V, TO220-7; ki_fp_filters: TO*263*TabPin4*; Footprint: Package_TO_SOT_SMD:TO-263-7_TabPin4; Supplier: http://www.infineon.com/dgdl/Infineon-BTS50055-1TMA-DS-v01_00-EN.pdf?fileId=5546d4625a888733015aa9b00de935ed
footprint TO-263-7_TabPin4
pins: 1 OUT (power), 2 OUT hidden, 3 IN (in), 4 Vbb (power), 5 IS (out), 6 OUT hidden, 7 OUT hidden

## BTS50055-1TMC
designator *  value BTS50055-1TMC
ki_keywords: BTS50055 PROFET; ki_description: Smart High-Side Power Switch, PROFET, Single, 6mOhm, 17A, 34V, TO220-7; ki_fp_filters: TO*263*TabPin4*; Footprint: Package_TO_SOT_SMD:TO-263-7_TabPin4; Supplier: https://www.infineon.com/dgdl/Infineon-BTS50055-1TMC-DS-v01_00-EN.pdf?fileId=5546d4625a888733015aa9b0007235e9
footprint TO-263-7_TabPin4
pins: 1 OUT (power), 2 OUT hidden, 3 IN (in), 4 Vbb (power), 5 IS (out), 6 OUT hidden, 7 OUT hidden

## BTS50080-1TEA
designator *  value BTS50080-1TEA
ki_keywords: infineon power switch; ki_description: Smart High-Side Power Switch, PROFET, Single, 16mOhm, 10A, 30V, TO252-5; ki_fp_filters: TO*252*; Footprint: Package_TO_SOT_SMD:TO-252-4; Supplier: http://www.infineon.com/dgdl/Infineon-BTS50080-1TEA-DS-v01_00-EN.pdf?fileId=5546d4625a888733015aa435f2d2115b
footprint TO-252-4
pins: 1 OUT (power), 2 IN (in), 3 Vbb (power), 4 IS (out), 5 OUT hidden

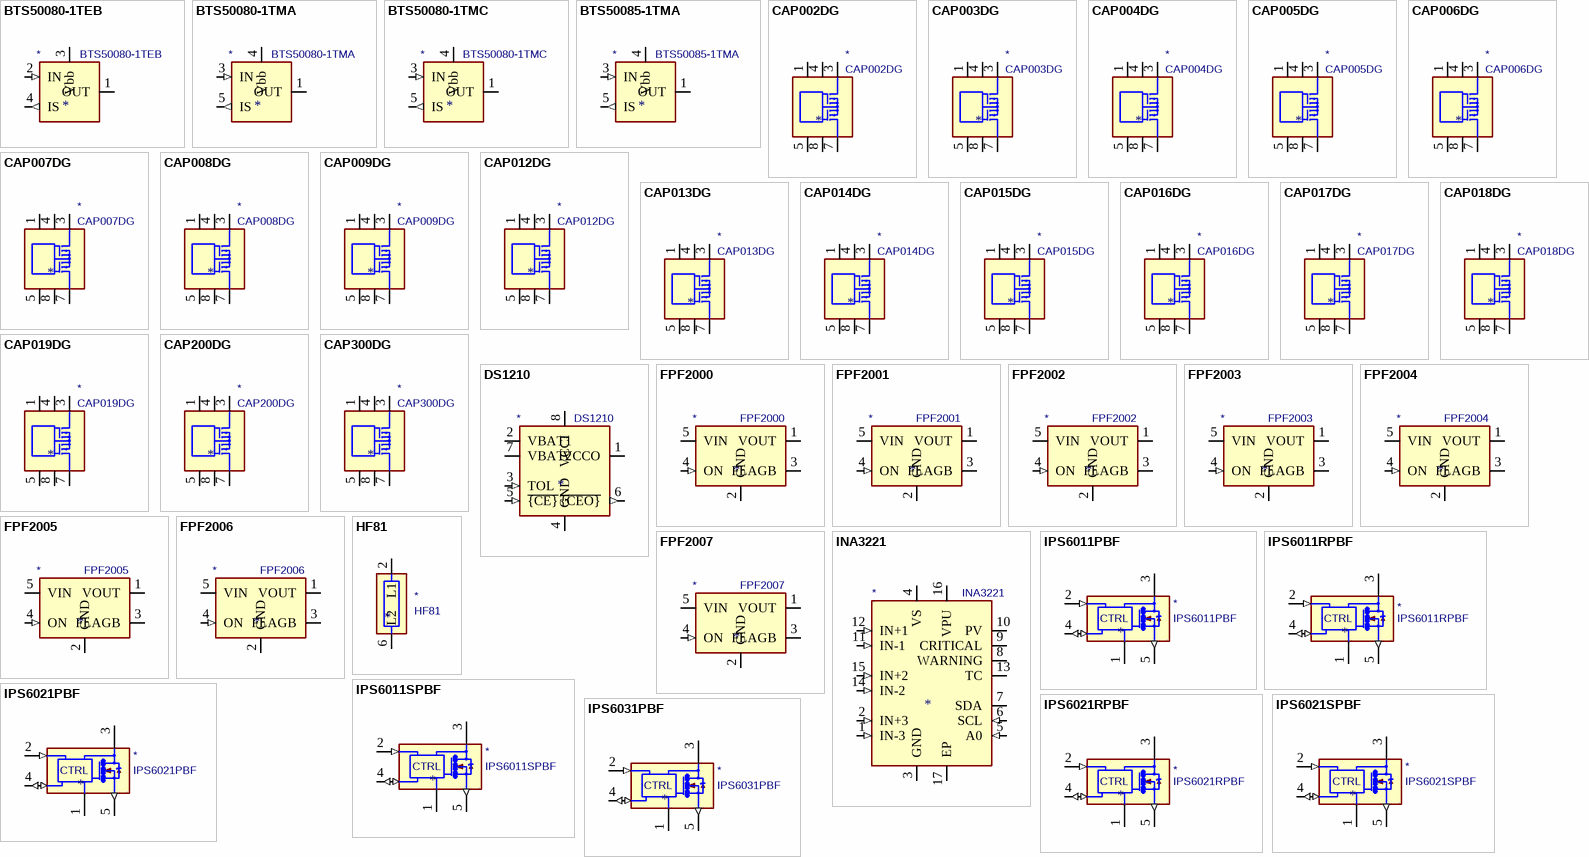
[diagram p2: symbols BTS50080-1TEB to IPS6031PBF]

## BTS50080-1TEB
designator *  value BTS50080-1TEB
ki_keywords: infineon power switch; ki_description: Smart High-Side Power Switch, PROFET, Single, 16mOhm, 10A, 30V, TO252-5; ki_fp_filters: TO*252*; Footprint: Package_TO_SOT_SMD:TO-252-4; Supplier: https://www.infineon.com/dgdl/Infineon-BTS50080-1TEB-DS-v01_00-EN.pdf?fileId=5546d4625a888733015aa435e5601157
footprint TO-252-4
pins: 1 OUT (power), 2 IN (in), 3 Vbb (power), 4 IS (out), 5 OUT hidden

## BTS50080-1TMA
designator *  value BTS50080-1TMA
ki_keywords: BTS50080 PROFET; ki_description: Smart High-Side Power Switch, PROFET, Single, 16mOhm, 9.5A, 38V, TO220-7; ki_fp_filters: TO*263*TabPin4*; Footprint: Package_TO_SOT_SMD:TO-263-7_TabPin4; Supplier: https://www.infineon.com/dgdl/Infineon-BTS50080-1TMA-DS-v01_00-EN.pdf?fileId=5546d4625a888733015aa435d7fe1153
footprint TO-263-7_TabPin4
pins: 1 OUT (power), 2 OUT hidden, 3 IN (in), 4 Vbb (power), 5 IS (out), 6 OUT hidden, 7 OUT hidden

## BTS50080-1TMC
designator *  value BTS50080-1TMC
ki_keywords: BTS50080 PROFET; ki_description: Smart High-Side Power Switch, PROFET, Single, 16mOhm, 9.5A, 38V, TO220-7; ki_fp_filters: TO*263*TabPin4*; Footprint: Package_TO_SOT_SMD:TO-263-7_TabPin4; Supplier: https://www.infineon.com/dgdl/Infineon-BTS50080_1TMC-DS-v01_00-en.pdf?fileId=db3a3043266237920126992737c951ee
footprint TO-263-7_TabPin4
pins: 1 OUT (power), 2 OUT hidden, 3 IN (in), 4 Vbb (power), 5 IS (out), 6 OUT hidden, 7 OUT hidden

## BTS50085-1TMA
designator *  value BTS50085-1TMA
ki_keywords: BTS50085 PROFET; ki_description: Smart High-Side Power Switch, PROFET, Single, 9mOhm, 11.1A, 58V, TO220-7; ki_fp_filters: TO*263*TabPin4*; Footprint: Package_TO_SOT_SMD:TO-263-7_TabPin4; Supplier: https://www.infineon.com/dgdl/Infineon-BTS50085-1TMA-DS-v01_00-EN.pdf?fileId=5546d4625a888733015aa435bccd114b
footprint TO-263-7_TabPin4
pins: 1 OUT (power), 2 OUT hidden, 3 IN (in), 4 Vbb (power), 5 IS (out), 6 OUT hidden, 7 OUT hidden

## CAP002DG
designator *  value CAP002DG
ki_keywords: Automatic Capacitor Discarger; ki_description: CapZero Automatic Capacitor Discarger, 825V, <=500nF, 1.5MOhm, SOIC-8; ki_fp_filters: SOIC*3.9x4.9mm*P1.27mm*; Footprint: Package_SO:SOIC-8_3.9x4.9mm_P1.27mm; Supplier: https://ac-dc.power.com/sites/default/files/product-docs/capzero_family_datasheet.pdf
footprint SOIC-8_3.9x4.9mm_P1.27mm
pins: 1, 2 hidden, 3, 4, 5, 6 hidden, 7, 8

## CAP003DG
designator *  value CAP003DG
ki_keywords: Automatic Capacitor Discarger; ki_description: CapZero Automatic Capacitor Discarger, 825V, <=750nF, 1.02MOhm, SOIC-8; ki_fp_filters: SOIC*3.9x4.9mm*P1.27mm*; Footprint: Package_SO:SOIC-8_3.9x4.9mm_P1.27mm; Supplier: https://ac-dc.power.com/sites/default/files/product-docs/capzero_family_datasheet.pdf
footprint SOIC-8_3.9x4.9mm_P1.27mm
pins: 1, 2 hidden, 3, 4, 5, 6 hidden, 7, 8

## CAP004DG
designator *  value CAP004DG
ki_keywords: Automatic Capacitor Discarger; ki_description: CapZero Automatic Capacitor Discarger, 825V, <=1uF, 780kOhm, SOIC-8; ki_fp_filters: SOIC*3.9x4.9mm*P1.27mm*; Footprint: Package_SO:SOIC-8_3.9x4.9mm_P1.27mm; Supplier: https://ac-dc.power.com/sites/default/files/product-docs/capzero_family_datasheet.pdf
footprint SOIC-8_3.9x4.9mm_P1.27mm
pins: 1, 2 hidden, 3, 4, 5, 6 hidden, 7, 8

## CAP005DG
designator *  value CAP005DG
ki_keywords: Automatic Capacitor Discarger; ki_description: CapZero Automatic Capacitor Discarger, 825V, <=1.5uF, 480kOhm, SOIC-8; ki_fp_filters: SOIC*3.9x4.9mm*P1.27mm*; Footprint: Package_SO:SOIC-8_3.9x4.9mm_P1.27mm; Supplier: https://ac-dc.power.com/sites/default/files/product-docs/capzero_family_datasheet.pdf
footprint SOIC-8_3.9x4.9mm_P1.27mm
pins: 1, 2 hidden, 3, 4, 5, 6 hidden, 7, 8

## CAP006DG
designator *  value CAP006DG
ki_keywords: Automatic Capacitor Discarger; ki_description: CapZero Automatic Capacitor Discarger, 825V, <=2uF, 360kOhm, SOIC-8; ki_fp_filters: SOIC*3.9x4.9mm*P1.27mm*; Footprint: Package_SO:SOIC-8_3.9x4.9mm_P1.27mm; Supplier: https://ac-dc.power.com/sites/default/files/product-docs/capzero_family_datasheet.pdf
footprint SOIC-8_3.9x4.9mm_P1.27mm
pins: 1, 2 hidden, 3, 4, 5, 6 hidden, 7, 8

## CAP007DG
designator *  value CAP007DG
ki_keywords: Automatic Capacitor Discarger; ki_description: CapZero Automatic Capacitor Discarger, 825V, <=2.5uF, 300kOhm, SOIC-8; ki_fp_filters: SOIC*3.9x4.9mm*P1.27mm*; Footprint: Package_SO:SOIC-8_3.9x4.9mm_P1.27mm; Supplier: https://ac-dc.power.com/sites/default/files/product-docs/capzero_family_datasheet.pdf
footprint SOIC-8_3.9x4.9mm_P1.27mm
pins: 1, 2 hidden, 3, 4, 5, 6 hidden, 7, 8

## CAP008DG
designator *  value CAP008DG
ki_keywords: Automatic Capacitor Discarger 825V; ki_description: CapZero Automatic Capacitor Discarger, 825V, <=3.5uF, 200kOhm, SOIC-8; ki_fp_filters: SOIC*3.9x4.9mm*P1.27mm*; Footprint: Package_SO:SOIC-8_3.9x4.9mm_P1.27mm; Supplier: https://ac-dc.power.com/sites/default/files/product-docs/capzero_family_datasheet.pdf
footprint SOIC-8_3.9x4.9mm_P1.27mm
pins: 1, 2 hidden, 3, 4, 5, 6 hidden, 7, 8

## CAP009DG
designator *  value CAP009DG
ki_keywords: Automatic Capacitor Discarger; ki_description: CapZero Automatic Capacitor Discarger, 825V, <=5uF, 150kOhm, SOIC-8; ki_fp_filters: SOIC*3.9x4.9mm*P1.27mm*; Footprint: Package_SO:SOIC-8_3.9x4.9mm_P1.27mm; Supplier: https://ac-dc.power.com/sites/default/files/product-docs/capzero_family_datasheet.pdf
footprint SOIC-8_3.9x4.9mm_P1.27mm
pins: 1, 2 hidden, 3, 4, 5, 6 hidden, 7, 8

## CAP012DG
designator *  value CAP012DG
ki_keywords: Automatic Capacitor Discarger; ki_description: CapZero Automatic Capacitor Discarger, 1000V, <=500nF, 1.5MOhm, SOIC-8; ki_fp_filters: SOIC*3.9x4.9mm*P1.27mm*; Footprint: Package_SO:SOIC-8_3.9x4.9mm_P1.27mm; Supplier: https://ac-dc.power.com/sites/default/files/product-docs/capzero_family_datasheet.pdf
footprint SOIC-8_3.9x4.9mm_P1.27mm
pins: 1, 2 hidden, 3, 4, 5, 6 hidden, 7, 8

## CAP013DG
designator *  value CAP013DG
ki_keywords: Automatic Capacitor Discarger; ki_description: CapZero Automatic Capacitor Discarger, 1000V, <=750nF, 1.02MOhm, SOIC-8; ki_fp_filters: SOIC*3.9x4.9mm*P1.27mm*; Footprint: Package_SO:SOIC-8_3.9x4.9mm_P1.27mm; Supplier: https://ac-dc.power.com/sites/default/files/product-docs/capzero_family_datasheet.pdf
footprint SOIC-8_3.9x4.9mm_P1.27mm
pins: 1, 2 hidden, 3, 4, 5, 6 hidden, 7, 8

## CAP014DG
designator *  value CAP014DG
ki_keywords: Automatic Capacitor Discarger; ki_description: CapZero Automatic Capacitor Discarger, 1000V, <=1uF, 780kOhm, SOIC-8; ki_fp_filters: SOIC*3.9x4.9mm*P1.27mm*; Footprint: Package_SO:SOIC-8_3.9x4.9mm_P1.27mm; Supplier: https://ac-dc.power.com/sites/default/files/product-docs/capzero_family_datasheet.pdf
footprint SOIC-8_3.9x4.9mm_P1.27mm
pins: 1, 2 hidden, 3, 4, 5, 6 hidden, 7, 8

## CAP015DG
designator *  value CAP015DG
ki_keywords: Automatic Capacitor Discarger; ki_description: CapZero Automatic Capacitor Discarger, 1000V, <=1.5uF, 480kOhm, SOIC-8; ki_fp_filters: SOIC*3.9x4.9mm*P1.27mm*; Footprint: Package_SO:SOIC-8_3.9x4.9mm_P1.27mm; Supplier: https://ac-dc.power.com/sites/default/files/product-docs/capzero_family_datasheet.pdf
footprint SOIC-8_3.9x4.9mm_P1.27mm
pins: 1, 2 hidden, 3, 4, 5, 6 hidden, 7, 8

## CAP016DG
designator *  value CAP016DG
ki_keywords: Automatic Capacitor Discarger; ki_description: CapZero Automatic Capacitor Discarger, 1000V, <=2uF, 360kOhm, SOIC-8; ki_fp_filters: SOIC*3.9x4.9mm*P1.27mm*; Footprint: Package_SO:SOIC-8_3.9x4.9mm_P1.27mm; Supplier: https://ac-dc.power.com/sites/default/files/product-docs/capzero_family_datasheet.pdf
footprint SOIC-8_3.9x4.9mm_P1.27mm
pins: 1, 2 hidden, 3, 4, 5, 6 hidden, 7, 8

## CAP017DG
designator *  value CAP017DG
ki_keywords: Automatic Capacitor Discarger; ki_description: CapZero Automatic Capacitor Discarger, 1000V, <=2.5uF, 300kOhm, SOIC-8; ki_fp_filters: SOIC*3.9x4.9mm*P1.27mm*; Footprint: Package_SO:SOIC-8_3.9x4.9mm_P1.27mm; Supplier: https://ac-dc.power.com/sites/default/files/product-docs/capzero_family_datasheet.pdf
footprint SOIC-8_3.9x4.9mm_P1.27mm
pins: 1, 2 hidden, 3, 4, 5, 6 hidden, 7, 8

## CAP018DG
designator *  value CAP018DG
ki_keywords: Automatic Capacitor Discarger; ki_description: CapZero Automatic Capacitor Discarger, 1000V, <=3.5uF, 200kOhm, SOIC-8; ki_fp_filters: SOIC*3.9x4.9mm*P1.27mm*; Footprint: Package_SO:SOIC-8_3.9x4.9mm_P1.27mm; Supplier: https://ac-dc.power.com/sites/default/files/product-docs/capzero_family_datasheet.pdf
footprint SOIC-8_3.9x4.9mm_P1.27mm
pins: 1, 2 hidden, 3, 4, 5, 6 hidden, 7, 8

## CAP019DG
designator *  value CAP019DG
ki_keywords: Automatic Capacitor Discarger; ki_description: CapZero Automatic Capacitor Discarger, 1000V, <=5uF, 150kOhm, SOIC-8; ki_fp_filters: SOIC*3.9x4.9mm*P1.27mm*; Footprint: Package_SO:SOIC-8_3.9x4.9mm_P1.27mm; Supplier: https://ac-dc.power.com/sites/default/files/product-docs/capzero_family_datasheet.pdf
footprint SOIC-8_3.9x4.9mm_P1.27mm
pins: 1, 2 hidden, 3, 4, 5, 6 hidden, 7, 8

## CAP200DG
designator *  value CAP200DG
ki_keywords: Automatic Capacitor Discarger; ki_description: CapZero Zero Loss Automatic Capacitor Discharge IC, 1000V, 100nF-6uF, 7.5M-142kOhm, SOIC-8; ki_fp_filters: SOIC*3.9x4.9mm*P1.27mm*; Footprint: Package_SO:SOIC-8_3.9x4.9mm_P1.27mm; Supplier: https://ac-dc.power.com/sites/default/files/product-docs/capzero-2_family_datasheet.pdf
footprint SOIC-8_3.9x4.9mm_P1.27mm
pins: 1, 2 hidden, 3, 4, 5, 6 hidden, 7, 8

## CAP300DG
designator *  value CAP300DG
ki_keywords: Automatic Capacitor Discarger; ki_description: CapZero Zero Loss Automatic Capacitor Discharge IC, 1000V, 100nF-6uF, >=54kOhm, SOIC-8; ki_fp_filters: SOIC*3.9x4.9mm*P1.27mm*; Footprint: Package_SO:SOIC-8_3.9x4.9mm_P1.27mm; Supplier: https://ac-dc.power.com/sites/default/files/product_document/data_sheet/capzero-3_family_datasheet.pdf
footprint SOIC-8_3.9x4.9mm_P1.27mm
pins: 1, 2 hidden, 3, 4, 5, 6 hidden, 7, 8

## DS1210
designator *  value DS1210
ki_keywords: Nonvolatile, RAM, Controller, Battery, Power; ki_description: Nonvolatile Controller, PDIP-8; ki_fp_filters: DIP*W7.62mm*; Footprint: Package_DIP:DIP-8_W7.62mm; Supplier: https://datasheets.maximintegrated.com/en/ds/DS1210.pdf
footprint DIP-8_W7.62mm
pins: 1 VCCO (power), 2 VBAT1 (power), 3 TOL (in), 4 GND (power), 5 ~{{CE}} (in), 6 ~{{CEO}} (out), 7 VBAT2 (power), 8 VCCI (power)

## FPF2000
designator *  value FPF2000
ki_keywords: 1-chanel power-distribution USB; ki_description: Single power-distribution switcher, current limit = 50mA, blanking time = 10 ms, auto-restart time = 80 ms, ON Pin Polarity = HIGH, SOT-353; ki_fp_filters: SOT?353*; Footprint: Package_TO_SOT_SMD:SOT-353_SC-70-5; Supplier: https://www.onsemi.com/pub/Collateral/FPF2001-D.pdf
footprint SOT-353_SC-70-5
pins: 1 VOUT (power), 2 GND (power), 3 FLAGB (oc), 4 ON (in), 5 VIN (power)

## FPF2001
designator *  value FPF2001
ki_keywords: 1-chanel power-distribution USB; ki_description: Single power-distribution switcher, current limit = 50mA, blanking time = 10 ms, auto-restart time = 80 ms, ON Pin Polarity = LOW, SOT-353; ki_fp_filters: SOT?353*; Footprint: Package_TO_SOT_SMD:SOT-353_SC-70-5; Supplier: https://www.onsemi.com/pub/Collateral/FPF2001-D.pdf
footprint SOT-353_SC-70-5
pins: 1 VOUT (power), 2 GND (power), 3 FLAGB (oc), 4 ON (in), 5 VIN (power)

## FPF2002
designator *  value FPF2002
ki_keywords: 1-chanel power-distribution USB; ki_description: Single power-distribution switcher, current limit = 50mA, blanking time = 10 ms, w/o auto-restart, ON Pin Polarity = HIGH, SOT-353; ki_fp_filters: SOT?353*; Footprint: Package_TO_SOT_SMD:SOT-353_SC-70-5; Supplier: https://www.onsemi.com/pub/Collateral/FPF2001-D.pdf
footprint SOT-353_SC-70-5
pins: 1 VOUT (power), 2 GND (power), 3 FLAGB (oc), 4 ON (in), 5 VIN (power)

## FPF2003
designator *  value FPF2003
ki_keywords: 1-chanel power-distribution USB; ki_description: Single power-distribution switcher, current limit = 50mA, blanking time = 0 ms, w/o auto-restart, ON Pin Polarity = HIGH, SOT-353; ki_fp_filters: SOT?353*; Footprint: Package_TO_SOT_SMD:SOT-353_SC-70-5; Supplier: https://www.onsemi.com/pub/Collateral/FPF2001-D.pdf
footprint SOT-353_SC-70-5
pins: 1 VOUT (power), 2 GND (power), 3 FLAGB (oc), 4 ON (in), 5 VIN (power)

## FPF2004
designator *  value FPF2004
ki_keywords: 1-chanel power-distribution USB; ki_description: Single power-distribution switcher, current limit = 100mA, blanking time = 10 ms, auto-restart time = 80 ms, ON Pin Polarity = HIGH, SOT-353; ki_fp_filters: SOT?353*; Footprint: Package_TO_SOT_SMD:SOT-353_SC-70-5; Supplier: https://www.onsemi.com/pub/Collateral/FPF2001-D.pdf
footprint SOT-353_SC-70-5
pins: 1 VOUT (power), 2 GND (power), 3 FLAGB (oc), 4 ON (in), 5 VIN (power)

## FPF2005
designator *  value FPF2005
ki_keywords: 1-chanel power-distribution USB; ki_description: Single power-distribution switcher, current limit = 100mA, blanking time = 10 ms, auto-restart time = 80 ms, ON Pin Polarity = LOW, SOT-353; ki_fp_filters: SOT?353*; Footprint: Package_TO_SOT_SMD:SOT-353_SC-70-5; Supplier: https://www.onsemi.com/pub/Collateral/FPF2001-D.pdf
footprint SOT-353_SC-70-5
pins: 1 VOUT (power), 2 GND (power), 3 FLAGB (oc), 4 ON (in), 5 VIN (power)

## FPF2006
designator *  value FPF2006
ki_keywords: 1-chanel power-distribution USB; ki_description: Single power-distribution switcher, current limit = 100mA, blanking time = 10 ms, w/o auto-restart, ON Pin Polarity = HIGH, SOT-353; ki_fp_filters: SOT?353*; Footprint: Package_TO_SOT_SMD:SOT-353_SC-70-5; Supplier: https://www.onsemi.com/pub/Collateral/FPF2001-D.pdf
footprint SOT-353_SC-70-5
pins: 1 VOUT (power), 2 GND (power), 3 FLAGB (oc), 4 ON (in), 5 VIN (power)

## FPF2007
designator *  value FPF2007
ki_keywords: 1-chanel power-distribution USB; ki_description: Single power-distribution switcher, current limit = 100mA, blanking time = 0 ms, w/o auto-restart, ON Pin Polarity = HIGH, SOT-353; ki_fp_filters: SOT?353*; Footprint: Package_TO_SOT_SMD:SOT-353_SC-70-5; Supplier: https://www.onsemi.com/pub/Collateral/FPF2001-D.pdf
footprint SOT-353_SC-70-5
pins: 1 VOUT (power), 2 GND (power), 3 FLAGB (oc), 4 ON (in), 5 VIN (power)

## HF81
designator *  value HF81
ki_keywords: X capacitor discharge; ki_description: X capacitor bleeder, SOIC-8; ki_fp_filters: SOIC*3.9x4.9mm*P1.27mm*; Footprint: Package_SO:SOIC-8_3.9x4.9mm_P1.27mm; Supplier: http://www.monolithicpower.com/DesktopModules/DocumentManage/API/Document/getDocument?id=142
footprint SOIC-8_3.9x4.9mm_P1.27mm
pins: 1 NC (in) hidden, 2 L1, 3 L1 hidden, 4 NC (in) hidden, 5 NC (in) hidden, 6 L2, 7 L2 hidden, 8 NC (in) hidden

## INA3221
designator *  value INA3221
ki_keywords: Shunt and Bus voltage monitor; ki_description: Triple-Channel High-Side Shunt and Bus Voltage Monitor with I2C and SMBUS Compatible Interface, QFN-16; ki_fp_filters: Texas*RGV*S?PVQFN*; Footprint: Package_DFN_QFN:Texas_RGV_S-PVQFN-N16_EP2.1x2.1mm; Supplier: http://www.ti.com/lit/ds/symlink/ina3221.pdf
footprint Texas_RGV_S-PVQFN-N16_EP2.1x2.1mm
pins: 1 IN-3 (in), 2 IN+3 (in), 3 GND (power), 4 VS (power), 5 A0 (in), 6 SCL (in), 7 SDA (io), 8 WARNING (oc), 9 CRITICAL (oc), 10 PV (oc), 11 IN-1 (in), 12 IN+1 (in), 13 TC (oc), 14 IN-2 (in), 15 IN+2 (in), 16 VPU (power), 17 EP

## IPS6011PBF
designator *  value IPS6011PBF
ki_keywords: Intelligent Power Switch High Side MOSFET; ki_description: 39V, 60A, Intelligent Power Switch High Side, TO-220-5; ki_fp_filters: TO?220*; Footprint: Package_TO_SOT_THT:TO-220-5_Vertical; Supplier: http://www.irf.com/product-info/datasheets/data/ips6011pbf.pdf
footprint TO-220-5_Vertical
pins: 1 GND (power), 2 IN (in), 3 VCC (power), 4 DG (io), 5 OUT (out)
text: CTRL

## IPS6011RPBF
designator *  value IPS6011RPBF
ki_keywords: Intelligent Power Switch High Side MOSFET; ki_description: 39V, 60A, Intelligent Power Switch High Side, D-PAK 5pin; ki_fp_filters: TO?252*; Footprint: Package_TO_SOT_SMD:TO-252-5_TabPin3; Supplier: http://www.irf.com/product-info/datasheets/data/ips6011pbf.pdf
footprint TO-252-5_TabPin3
pins: 1 GND (power), 2 IN (in), 3 VCC (power), 4 DG (io), 5 OUT (out)
text: CTRL

## IPS6011SPBF
designator *  value IPS6011SPBF
ki_keywords: Intelligent Power Switch High Side MOSFET; ki_description: 39V, 60A, Intelligent Power Switch High Side, D2-PAK 5pin; ki_fp_filters: TO?263*; Footprint: Package_TO_SOT_SMD:TO-263-5_TabPin3; Supplier: http://www.irf.com/product-info/datasheets/data/ips6011pbf.pdf
footprint TO-263-5_TabPin3
pins: 1 GND (power), 2 IN (in), 3 VCC (power), 4 DG (io), 5 OUT (out)
text: CTRL

## IPS6021PBF
designator *  value IPS6021PBF
ki_keywords: Intelligent Power Switch High Side MOSFET; ki_description: 39V, 32A, Intelligent Power Switch High Side, TO-220-5; ki_fp_filters: TO?220*; Footprint: Package_TO_SOT_THT:TO-220-5_Vertical; Supplier: http://www.irf.com/product-info/datasheets/data/ips6021pbf.pdf
footprint TO-220-5_Vertical
pins: 1 GND (power), 2 IN (in), 3 VCC (power), 4 DG (io), 5 OUT (out)
text: CTRL